# EAGLE library part M5STACK (library apollo-ctrl-v4)
M5stack's M-BUS board skeleton (0.1" PTH header)
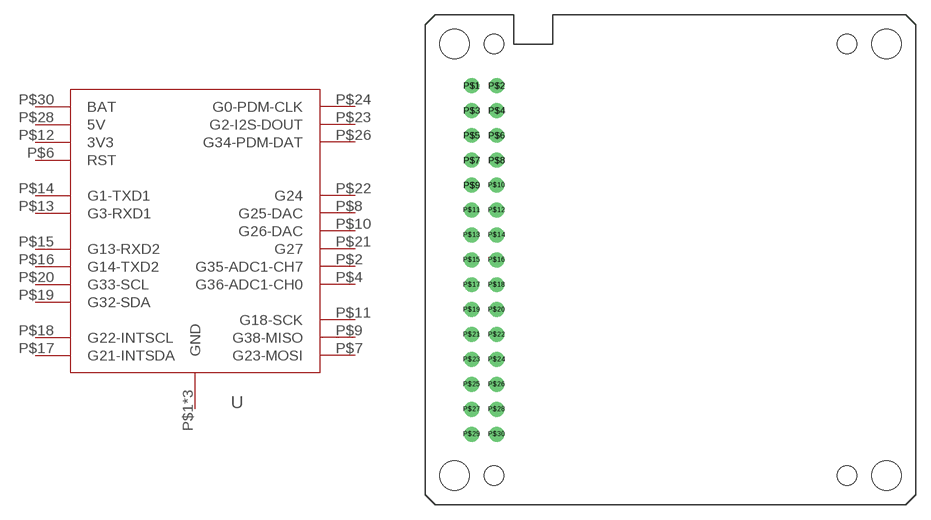
[diagram p24: symbol with the pads of M5AMIGO; footprint M5AMIGO]

Designator prefix U

## M5STACK  [M5AMIGO]
P$1  GND
P$2  G35-ADC1-CH7
P$3  GND
P$4  G36-ADC1-CH0
P$5  GND
P$6  RST
P$7  G23-MOSI
P$8  G25-DAC
P$9  G38-MISO
P$10  G26-DAC
P$11  G18-SCK
P$12  3V3
P$13  G3-RXD1
P$14  G1-TXD1
P$15  G13-RXD2
P$16  G14-TXD2
P$17  G21-INTSDA
P$18  G22-INTSCL
P$19  G32-SDA
P$20  G33-SCL
P$21  G27
P$22  G24
P$23  G2-I2S-DOUT
P$24  G0-PDM-CLK
P$26  G34-PDM-DAT
P$28  5V
P$30  BAT

## Footprint M5AMIGO (pad centres in mm)
M5stack's M-BUS board skelton
drill 1.016: P$1 4.73,42.77; P$2 7.27,42.77; P$3 4.73,40.23; P$4 7.27,40.23; P$5 4.73,37.69; P$6 7.27,37.69; P$7 4.73,35.15; P$8 7.27,35.15; P$9 4.73,32.61; P$10 7.27,32.61; P$11 4.73,30.07; P$12 7.27,30.07; P$13 4.73,27.53; P$14 7.27,27.53; P$15 4.73,24.99; P$16 7.27,24.99; P$17 4.73,22.45; P$18 7.27,22.45; P$19 4.73,19.91; P$20 7.27,19.91; P$21 4.73,17.37; P$22 7.27,17.37; P$23 4.73,14.83; P$24 7.27,14.83; P$25 4.73,12.29; P$26 7.27,12.29; P$27 4.73,9.75; P$28 7.27,9.75; P$29 4.73,7.21; P$30 7.27,7.21
hole 3 at 3,3
hole 3 at 47,3
hole 3 at 47,47
hole 3 at 3,47
hole 2 at 7,47
hole 2 at 43,47
hole 2 at 43,3
hole 2 at 7,3